# Altium footprint library HONEYWELL_Footprints.PcbLib: 1 footprints
Each footprint in its own frame and in the unit in brackets; x right, y up, seen from the top. Pads: shape width x height; smd on the part's side, far side on the other; paste and mask are expansions set on the pad; w line width, h text height; cw(c..) or ccw(c..) is an arc to the next point about the centre after c.
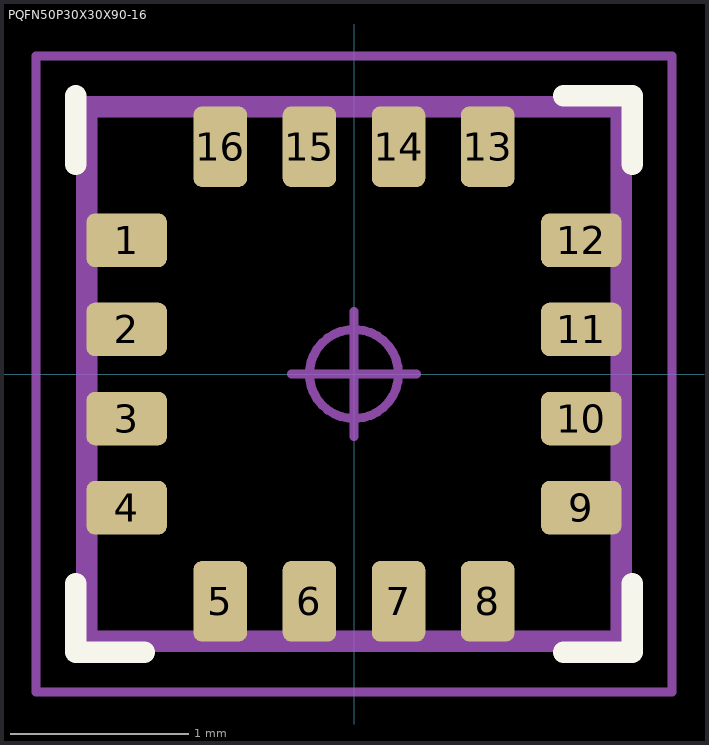
[diagram p0: the footprint, top view; thin cyan lines are the x and y axes]

## PQFN50P30X30X90-16 [mm] "IPC-7351C HMC5883L"
height 0.9
pads (16):
  rrect30% 0.45x0.3 smd: 1(-1.275,0.75) 2(-1.275,0.25) 3(-1.275,-0.25) 4(-1.275,-0.75) 9(1.275,-0.75) 10(1.275,-0.25) 11(1.275,0.25) 12(1.275,0.75)
  rrect30% 0.3x0.45 smd: 5(-0.75,-1.275) 6(-0.25,-1.275) 7(0.25,-1.275) 8(0.75,-1.275) 13(0.75,1.275) 14(0.25,1.275) 15(-0.25,1.275) 16(-0.75,1.275)
Top Overlay:
  lines w0.12: -1.56,-1.175 -1.56,-1.56 -1.175,-1.56 ; -1.56,1.175 -1.56,1.56 ; 1.175,-1.56 1.56,-1.56 1.56,-1.175 ; 1.175,1.56 1.56,1.56 1.56,1.175
Mechanical 11:
  lines w0.12: -1.5,-1.5 1.5,-1.5 1.5,1.5 -1.5,1.5 -1.5,-1.5
Mechanical 12:
  lines w0.025: -0.875,-1.4 -0.875,-1.075 -0.625,-1.075 -0.625,-1.4 ; -0.875,-1.4 -0.625,-1.4 ; -0.875,-1.4 -0.625,-1.4 ; -0.875,1.075 -0.625,1.075 ; -0.875,1.075 -0.625,1.075 ; -0.875,1.075 -0.875,1.4 -0.625,1.4 -0.625,1.075 ; -1.5,-1.5 -1.5,1.5 1.5,1.5 1.5,-1.5 -1.5,-1.5 ; -1.4,-0.875 -1.4,-0.625 -1.075,-0.625 -1.075,-0.875 -1.4,-0.875 ; -1.4,-0.375 -1.075,-0.375 -1.075,-0.125 -1.4,-0.125 -1.4,-0.375 ; -1.4,0.125 -1.075,0.125 -1.075,0.375 -1.4,0.375 -1.4,0.125 ; -1.4,0.625 -1.075,0.625 -1.075,0.875 -1.4,0.875 -1.4,0.625 ; -0.375,-1.4 -0.375,-1.075 -0.125,-1.075 -0.125,-1.4 -0.375,-1.4 ; -0.375,1.075 -0.125,1.075 -0.125,1.4 -0.375,1.4 -0.375,1.075 ; 0.125,-1.4 0.125,-1.075 0.375,-1.075 0.375,-1.4 0.125,-1.4 ; 0.125,1.075 0.375,1.075 0.375,1.4 0.125,1.4 0.125,1.075 ; 0.625,-1.4 0.625,-1.075 0.875,-1.075 0.875,-1.4 0.625,-1.4 ; 0.625,1.075 0.875,1.075 0.875,1.4 0.625,1.4 0.625,1.075 ; 1.075,-0.875 1.4,-0.875 1.4,-0.625 1.075,-0.625 1.075,-0.875 ; 1.075,-0.375 1.075,-0.125 1.4,-0.125 1.4,-0.375 1.075,-0.375 ; 1.075,0.125 1.075,0.375 1.4,0.375 1.4,0.125 1.075,0.125 ; 1.075,0.625 1.075,0.875 1.4,0.875 1.4,0.625 1.075,0.625
Mechanical 15:
  circle w0.05: c0,0 r0.25
  lines w0.05: -0.35,0 0.35,0 ; 0,-0.35 0,0.35 ; -1.785,-1.785 -1.785,1.785 1.785,1.785 1.785,-1.785 -1.785,-1.785
Mechanical 16:
  text "'.Designator'" at 0,0 h1.2
3D body "PQFN16P50_300X300X90L32X25.STEP": height 0.9, standoff 0, extent -1.5,-1.5 1.5,1.5